# Altium integrated library ASV-10.000MHZ-E-T.IntLib: 1 symbol
Pins are listed as number, name and electrical type; pins without a type are passive.

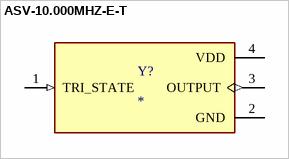
[diagram p0: symbol ASV-10.000MHZ-E-T]

## ASV-10.000MHZ-E-T
designator Y?
MP: ASV-10.000MHZ-E-T; Package: None; Value: *; Availability: Unavailable; Price: None
footprint XTAL_ASV-10.000MHZ-E-T
pins: 1 TRI_STATE (in), 2 GND (power), 3 OUTPUT (out), 4 VDD (power)